# Altium footprint library Solder_bridge.PcbLib: 1 footprints
Each footprint in its own frame and in the unit in brackets; x right, y up, seen from the top. Pads: shape width x height; smd on the part's side, far side on the other; paste and mask are expansions set on the pad; w line width, h text height; cw(c..) or ccw(c..) is an arc to the next point about the centre after c.
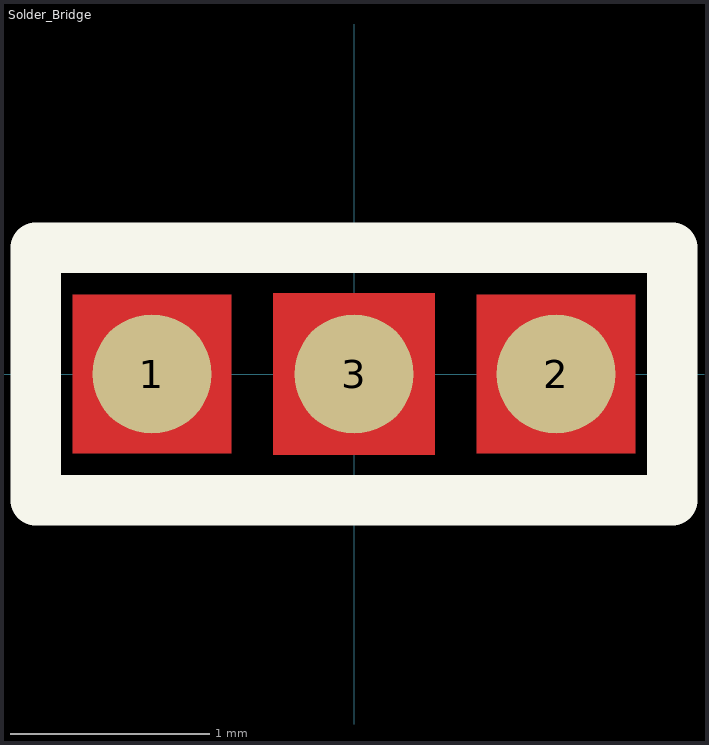
[diagram p0: the footprint, top view; thin cyan lines are the x and y axes]

## Solder_Bridge [mm]
pads (3):
  round 0.6 smd: 1(-1.016,0) 2(1.016,0) 3(0,0)
Top Layer:
  rectangle: 0.616,-0.4 1.416,0.4
  rectangle: -0.406,-0.406 0.406,0.406
  rectangle: -1.416,-0.4 -0.616,0.4
Top Overlay:
  lines w0.254: -1.6,-0.635 1.6,-0.635 1.6,0.635 -1.6,0.635 -1.6,-0.635
Top Solder:
  rectangle: -1.422,-0.406 -0.61,0.406
  rectangle: 0.61,-0.406 1.422,0.406
  rectangle: -0.406,-0.406 0.406,0.406